# EAGLE library part 20021521-00010T1 (library con-fci)
CONN HEADER 10-POS DUAL SHRD SMD
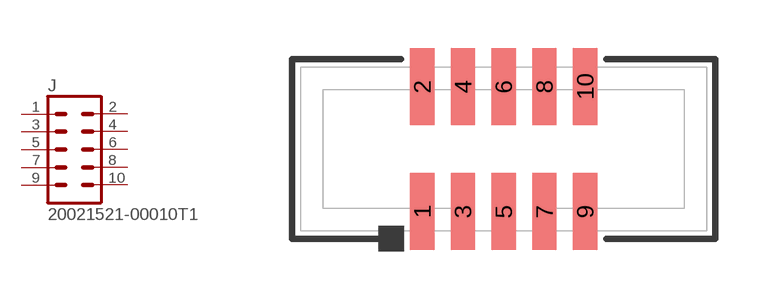
[diagram p8: symbol with the pads of 20021521-00010T1; footprint 20021521-00010T1]

Designator prefix J

## 20021521-00010T1  [20021521-00010T1]
1  1  pas
2  2  pas
3  3  pas
4  4  pas
5  5  pas
6  6  pas
7  7  pas
8  8  pas
9  9  pas
10  10  pas

## Footprint 20021521-00010T1 (pad centres in mm)
SMD SHROUDED HEADER FCI MiniTek 10-PIN, 0.05" PITCH
smd 0.76 x 2.4: 1 -2.54,-1.95; 2 -2.54,1.95; 3 -1.27,-1.95; 4 -1.27,1.95; 5 0,-1.95; 6 0,1.95; 7 1.27,-1.95; 8 1.27,1.95; 9 2.54,-1.95; 10 2.54,1.95